# Altium integrated library 2018-LIB.IntLib: 71 symbols
Pins are listed as number, name and electrical type; pins without a type are passive.

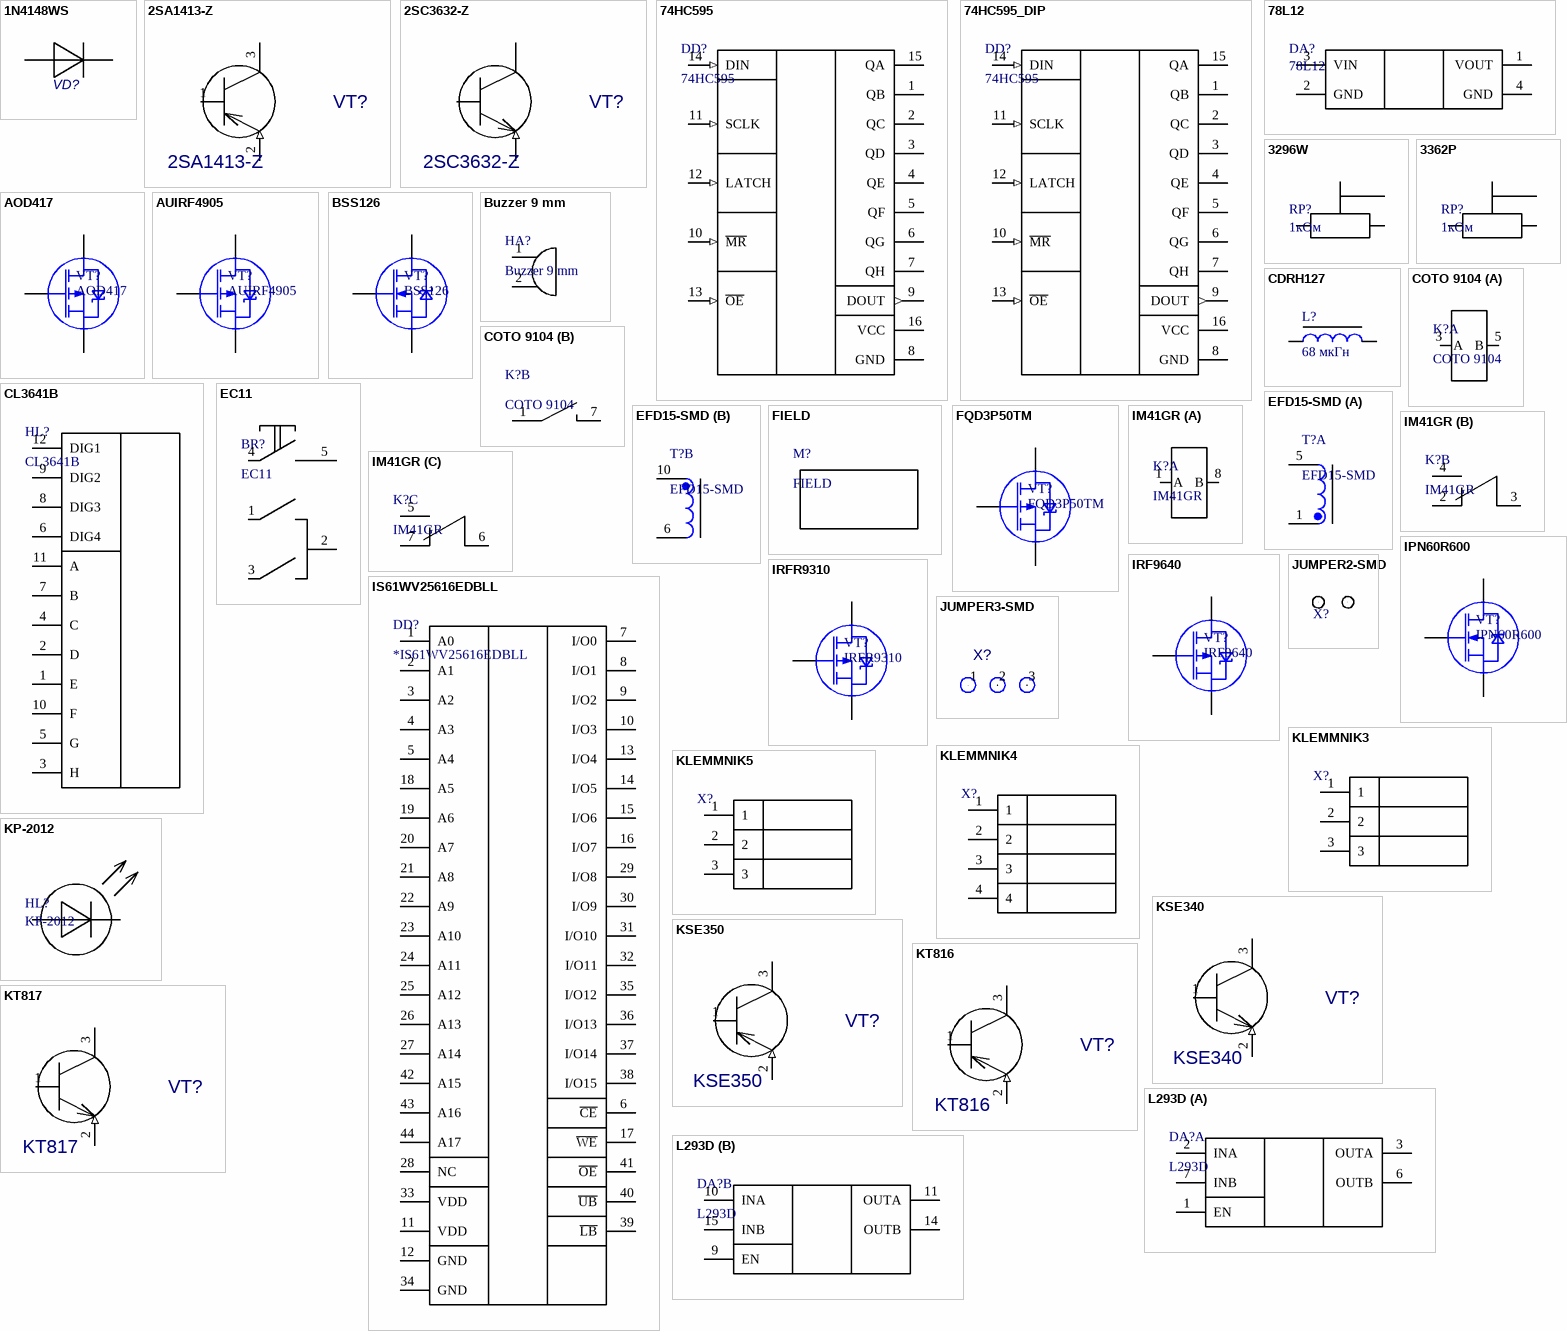
[diagram p0: symbols 1N4148WS to L293D]

## 1N4148WS
designator VD?  (value not drawn)
Diode; Published: 21-Mar-2003; DatasheetDocument: Oct-1999; PackageDocument: Sep-2001; PackageReference: SOT-23; Publisher: Altium Limited; ComponentLink1Description: Manufacturer Link; ComponentLink1URL: http://www.infineon.com/; ComponentLink2Description: Datasheet; ComponentLink2URL: http://www.infineon.com/upload/Document/cmc_upload/documents/080/631/bav99series_1.pdf
footprint sod323 (Chip Diode; Body 2.0 x 1.3 mm (LxW typ))
pins: 1 A, 2 C

## 2SA1413-Z
designator VT?
2SA1413-Z PNP
footprint DPAK
pins: 1 BASE (oc), 2 EMIT (in), 3 COLLEC (oe)

## 2SC3632-Z
designator VT?
2SC3632-Z NPN 600V
footprint DPAK
pins: 1 BASE (oc), 2 EMIT (in), 3 COLLEC (oe)

## 74HC595
designator DD?
footprint R-16A_M (16-Pin Small Outline Integrated Circuit 1.27 mm Pitch, IPC Low Density)
pins: 1 QB (hiz), 2 QC (hiz), 3 QD (hiz), 4 QE (hiz), 5 QF (hiz), 6 QG (hiz), 7 QH (hiz), 8 GND (power), 9 DOUT (out), 10 ~{MR} (in), 11 SCLK (in), 12 LATCH (in), 13 ~{OE} (in), 14 DIN (in), 15 QA (hiz), 16 VCC (power)

## 74HC595_DIP
designator DD?, comment 74HC595
footprint PDIP-16
pins: 1 QB (hiz), 2 QC (hiz), 3 QD (hiz), 4 QE (hiz), 5 QF (hiz), 6 QG (hiz), 7 QH (hiz), 8 GND (power), 9 DOUT (out), 10 ~{MR} (in), 11 SCLK (in), 12 LATCH (in), 13 ~{OE} (in), 14 DIN (in), 15 QA (hiz), 16 VCC (power)

## 78L12
designator DA?
footprint SOT89 (SOT-89; Body 4.6 x 4.25 mm, inc. leads (LxW max))
pins: 1 VOUT, 2 GND, 3 VIN, 4 GND

## 3296W
designator RP?, comment 1кОм
подстроечный резистор; Value: 1кОм
footprint 3296W
pins: 1 CCW, 2 WIPER, 3 CW

## 3362P
designator RP?, comment 1кОм
подстроечный резистор; Value: 1кОм
footprint 3362P
pins: 1 CCW, 2 WIPER, 3 CW

## AOD417
designator VT?
Power MOSFET
footprint DPAK
pins: 1 G, 2 S, 3 D

## AUIRF4905
designator VT?
Power MOSFET
footprint TO-220
pins: 1 G, 2 D, 3 S

## BSS126
designator VT?
SIPMOS® / Small-Signal-Transistor 600V
footprint SOT23-3L (SOT23, 3-Leads, Body 2.9x1.3mm, Pitch 0.95mm, Lead Span 2.5mm, IPC High Density)
pins: 1 G, 2 S, 3 D

## Buzzer 9 mm
designator HA?
footprint Zummer 9mm
pins: 1, 2

## CDRH127
designator L?, comment 68 мкГн
inductor; value: 68 мкГн
footprint CDRH127
pins: 1, 2

## CL3641B
designator HL?
4 DIGIT 0,38'' LED INDICATOR
footprint CL3641B
pins: 1 E, 2 D, 3 H, 4 C, 5 G, 6 DIG4, 7 B, 8 DIG3, 9 DIG2, 10 F, 11 A, 12 DIG1

## COTO 9104
designator K?
footprint COTO 9104
part A pins: 3 A, 5 B
part B pins: 1 NO, 7 COM

## EC11
designator BR?
footprint EC11
pins: 1 A, 2 C, 3 B, 4 D, 5 E

## EFD15-SMD
designator T?
FLYBACK TRANSFORMER; value: 68 мкГн
footprint EFD15-SMD (SOIC, 20-Leads, Body 14,95x14,95mm, Pitch 1,27mm, IPC Medium Density)
part A pins: 1 PR-START, 5 PR-END
part B pins: 6 BIAS-END, 10 BIAS-START

## FIELD
designator M?
footprint FIELD

## FQD3P50TM
designator VT?
Power MOSFET -500V
footprint DPAK
pins: 1 G, 2 S, 3 D

## IM41GR
designator K?
footprint IM41GR
part A pins: 1 A, 8 B
part B pins: 2 NC, 3 COM, 4 NO
part C pins: 5 NO, 6 COM, 7 NC

## IPN60R600
designator VT?
HEXFET Power MOSFET 600V N-CH
footprint SOT223-3 (SOT-223/SC-73; 3 Leads; Body 6.7 x 7.3 mm, inc. leads (LxW max))
pins: 1 G, 2 S, 3 D

## IRF9640
designator VT?
Power MOSFET
footprint D2PAK_3 (D2-PAK, 4-Leads, Body 8.8x10.4mm, Pitch 2.54mm, Lead Span 15.1mm, IPC Low Density)
pins: 1 G, 2 D, 3 S, 4 D

## IRFR9310
designator VT?
Power MOSFET
footprint DPAK
pins: 1 G, 2 S, 3 D

## IS61WV25616EDBLL
designator DD?, comment *IS61WV25616EDBLL
footprint SOP80P1176-44L (SOP, 44-Leads, Body 18.4x10.16mm, Pitch 0.8mm, IPC High Density)
pins: 1 A0, 2 A1, 3 A2, 4 A3, 5 A4, 6 ~{CE}, 7 I/O0, 8 I/O1, 9 I/O2, 10 I/O3, 11 VDD, 12 GND, 13 I/O4, 14 I/O5, 15 I/O6, 16 I/O7, 17 ~{WE}, 18 A5, 19 A6, 20 A7, 21 A8, 22 A9, 23 A10, 24 A11, 25 A12, 26 A13, 27 A14, 28 NC, 29 I/O8, 30 I/O9, 31 I/O10, 32 I/O11, 33 VDD, 34 GND, 35 I/O12, 36 I/O13, 37 I/O14, 38 I/O15, 39 ~{LB}, 40 ~{UB}, 41 ~{OE}, 42 A15, 43 A16, 44 A17

## JUMPER2-SMD
designator X?  (value not drawn)
footprint JP2_SMD
pins: 1, 2

## JUMPER3-SMD
designator X?  (value not drawn)
footprint JP3_SMD
pins: 1, 2, 3

## KLEMMNIK3
designator X?  (value not drawn)
footprint KL3
pins: 1, 2, 3

## KLEMMNIK4
designator X?  (value not drawn)
footprint KLEMNIK4
pins: 1, 2, 3, 4

## KLEMMNIK5
designator X?  (value not drawn)
footprint KL3
pins: 1, 2, 3

## KP-2012
designator HL?
Red LED SMD0805
footprint CAPC2012L-С0805 (Chip LED, Body 2.0x1.3mm, IPC High Density)
pins: 1 A, 2 C

## KSE340
designator VT?
KSE340 NPN
footprint TO-126
pins: 1 BASE (oc), 2 EMIT (in), 3 COLLEC (oe)

## KSE350
designator VT?
KSE350 PNP
footprint TO-126
pins: 1 BASE (oc), 2 EMIT (in), 3 COLLEC (oe)

## KT816
designator VT?
KT816 PNP
footprint TO-126
pins: 1 BASE (oc), 2 EMIT (in), 3 COLLEC (oe)

## KT817
designator VT?
KT817 NPN
footprint TO-126
pins: 1 BASE (oc), 2 EMIT (in), 3 COLLEC (oe)

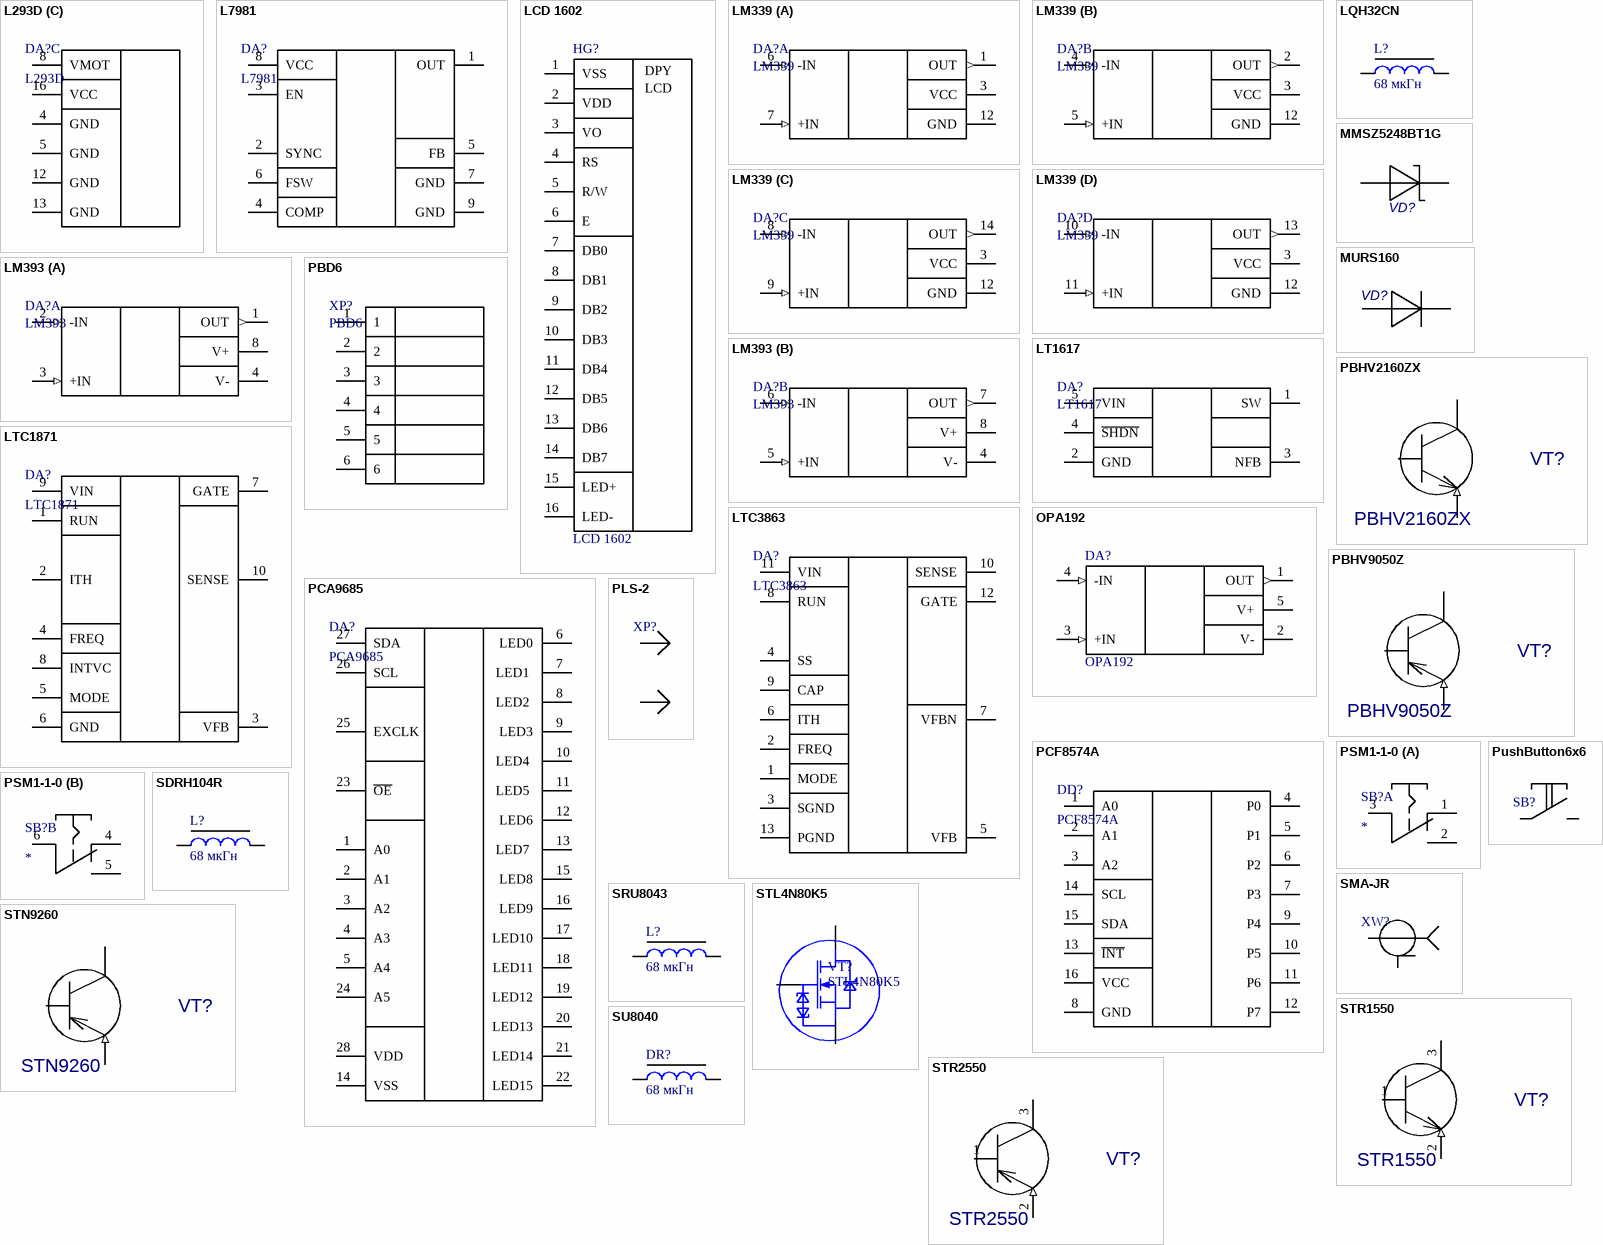
[diagram p1: symbols L293D to SU8040]

## L293D
designator DA?
Quadruple Half-H Drivers
footprint PDIP-16
part A pins: 1 EN, 2 INA, 3 OUTA, 6 OUTB, 7 INB
part B pins: 9 EN, 10 INA, 11 OUTA, 14 OUTB, 15 INB
part C pins: 4 GND, 5 GND, 8 VMOT, 12 GND, 13 GND, 16 VCC

## L7981
designator DA?
3 A step-down switching regulator
footprint SOIC_N_EP (8-Pin Small Outline Integrated Circuit 1.27 mm Pitch, IPC High Density)
pins: 1 OUT, 2 SYNC, 3 EN, 4 COMP, 5 FB, 6 FSW, 7 GND, 8 VCC, 9 GND

## LCD 1602
designator HG?
footprint LCD 1602
pins: 1 VSS, 2 VDD, 3 VO, 4 RS, 5 R/W, 6 E, 7 DB0, 8 DB1, 9 DB2, 10 DB3, 11 DB4, 12 DB5, 13 DB6, 14 DB7, 15 LED+, 16 LED-
text: DPY; LCD

## LM339
designator DA?
OP
footprint R-14_M (14-Pin Narrow Body Small Outline Integrated Circuit 1.27 mm Pitch, IPC Low Density)
part A pins: 1 OUT (out), 3 VCC (power), 6 -IN (in), 7 +IN (in), 12 GND (power)
part B pins: 2 OUT (out), 3 VCC (power), 4 -IN (in), 5 +IN (in), 12 GND (power)
part C pins: 3 VCC (power), 8 -IN (in), 9 +IN (in), 12 GND (power), 14 OUT (out)
part D pins: 3 VCC (power), 10 -IN (in), 11 +IN (in), 12 GND (power), 13 OUT (out)

## LM393
designator DA?
OP
footprint SOIC127P600-8BM (SOIC, 8-Leads, Body 4.9x3.9mm, Pitch 1.27mm, IPC Low Density)
part A pins: 1 OUT (out), 2 -IN (in), 3 +IN (in), 4 V- (power), 8 V+ (power)
part B pins: 4 V- (power), 5 +IN (in), 6 -IN (in), 7 OUT (out), 8 V+ (power)

## LQH32CN
designator L?, comment 68 мкГн
inductor; value: 68 мкГн
footprint LQH32CN
pins: 1, 2

## LT1617
designator DA?
Micropower inverting DC/DC / converters in a 5-lead SOT-23 package.
footprint SOT23-5AM
pins: 1 SW, 2 GND, 3 NFB, 4 ~{SHDN}, 5 VIN

## LTC1871
designator DA?
Wide Input Range, No RSENSE™ / Current Mode Boost, / Flyback and SEPIC Controller
footprint UMAX10 (Shrink Small Outline; 10 Leads; Body Width 3 mm; Pitch 0.5 mm)
pins: 1 RUN, 2 ITH, 3 VFB, 4 FREQ, 5 MODE, 6 GND, 7 GATE, 8 INTVC, 9 VIN, 10 SENSE

## LTC3863
designator DA?
60V Low IQ Inverting / DC/DC Controller
footprint MSOP12-EPAD (TSOP, 12-Leads, Body 4,50x3,00mm, Pitch 0,65mm, Thermal Pad 2,85x1,65mm, IPC Medium Density)
pins: 1 MODE, 2 FREQ, 3 SGND, 4 SS, 5 VFB, 6 ITH, 7 VFBN, 8 RUN, 9 CAP, 10 SENSE, 11 VIN, 12 GATE, 13 PGND

## MMSZ5248BT1G
designator VD?  (value not drawn)
ZENER; Published: 21-Mar-2003; DatasheetDocument: Oct-1999; PackageDocument: Sep-2001; PackageReference: SOT-23; Publisher: Altium Limited; ComponentLink1Description: Manufacturer Link; ComponentLink1URL: http://www.infineon.com/; ComponentLink2Description: Datasheet; ComponentLink2URL: http://www.infineon.com/upload/Document/cmc_upload/documents/080/631/bav99series_1.pdf
footprint SOD-123 (Chip Diode; Body 3.2 x 1.6 mm (LxW typ))
pins: 1 A, 2 C

## MURS160
designator VD?  (value not drawn)
1.0A SURFACE MOUNT SUPER-FAST RECTIFIER  600V; Published: 21-Mar-2003; DatasheetDocument: Oct-1999; PackageDocument: Sep-2001; PackageReference: SOT-23; Publisher: Altium Limited; ComponentLink1Description: Manufacturer Link; ComponentLink1URL: http://www.infineon.com/; ComponentLink2Description: Datasheet; ComponentLink2URL: http://www.infineon.com/upload/Document/cmc_upload/documents/080/631/bav99series_1.pdf
footprint SMA
pins: 1 A, 2 C

## OPA192
designator DA?
footprint SOT23-5AM (SOT23, 5-Leads, Body 2.9x1.7mm, Pitch 0.95mm, Lead Span 2.8mm, IPC Low Density)
pins: 1 OUT (out), 2 V- (power), 3 +IN (in), 4 -IN (in), 5 V+ (power)

## PBD6
designator XP?
footprint PBD-6 (Connector; IDC, Low Profile Male Header, Thru-Hole; 10 Position; Vertical; Pitch 2.54 mm; Body 20.32 x 9.2 x 9.45 mm (LxWxH))
pins: 1, 2, 3, 4, 5, 6

## PBHV2160ZX
designator VT?
PBHV2160ZX NPN
footprint SOT223 (SOT-223/SC-73; 4 Leads; Body 6.7 x 7.3 mm, inc. leads (LxW max))
pins: 1 BASE (oc), 2 COLLEC (oe), 3 EMIT (in), 4 COLLEC (oe)

## PBHV9050Z
designator VT?
PBHV9050Z PNP -500V
footprint SOT223 (SOT-223/SC-73; 4 Leads; Body 6.7 x 7.3 mm, inc. leads (LxW max))
pins: 1 BASE (oc), 2 COLLEC (oe), 3 EMIT (in), 4 COLLEC (oe)

## PCA9685
designator DA?
footprint SOT361-1 (Shrink Small Outline; 28 Leads; Body Width 4.4 mm; Pitch 0.65 mm)
pins: 1 A0, 2 A1, 3 A2 , 4 A3 , 5 A4 , 6 LED0, 7 LED1 , 8 LED2 , 9 LED3, 10 LED4 , 11 LED5 , 12 LED6, 13 LED7 , 14 VSS , 15 LED8, 16 LED9, 17 LED10, 18 LED11, 19 LED12, 20 LED13, 21 LED14, 22 LED15, 23 ~{OE}, 24 A5 , 25 EXCLK, 26 SCL , 27 SDA , 28 VDD 

## PCF8574A
designator DD?
Remote 8-bit I/O expander for I2C-bus with interrupt
footprint R-16A_M (16-Pin Small Outline Integrated Circuit 1.27 mm Pitch, IPC Low Density)
pins: 1 A0, 2 A1, 3 A2, 4 P0, 5 P1, 6 P2, 7 P3, 8 GND, 9 P4, 10 P5, 11 P6, 12 P7, 13 ~{INT}, 14 SCL, 15 SDA, 16 VCC

## PLS-2
designator XP?, comment Klemma1  (value not drawn)
PLS-1
footprint PLS-2
pins: 1, 2

## PSM1-1-0
designator SB?
footprint PSM1-1-0
part A pins: 1 NC, 2 NO, 3 COM
part B pins: 4 NC, 5 NO, 6 COM

## PushButton6x6
designator SB?  (value not drawn)
footprint PushButton6x6
pins: 1, 2, 3, 4

## SDRH104R
designator L?, comment 68 мкГн
inductor; value: 68 мкГн
footprint SDRH104R
pins: 1, 2

## SMA-JR
designator XW?  (value not drawn)
footprint SMA-JR
pins: 1, 2, 3, 4, 5

## SRU8043
designator L?, comment 68 мкГн
inductor; value: 68 мкГн
footprint SRU8043
pins: 1, 2

## STL4N80K5
designator VT?
HEXFET Power MOSFET 600V N-CH
footprint PowerFlat5x6
pins: 1 G, 2 S, 3 D

## STN9260
designator VT?
STN9260 PNP -600V
footprint SOT223 (SOT-223/SC-73; 4 Leads; Body 6.7 x 7.3 mm, inc. leads (LxW max))
pins: 1 BASE (oc), 2 COLLEC (oe), 3 EMIT (in), 4 COLLEC (oe)

## STR1550
designator VT?
STR1550 500V
footprint SOT23-3L (SOT23, 3-Leads, Body 2.9x1.3mm, Pitch 0.95mm, Lead Span 2.5mm, IPC High Density)
pins: 1 BASE (oc), 2 EMIT (in), 3 COLLEC (oe)

## STR2550
designator VT?
STR2550 500V
footprint SOT23-3L (SOT23, 3-Leads, Body 2.9x1.3mm, Pitch 0.95mm, Lead Span 2.5mm, IPC High Density)
pins: 1 BASE (oc), 2 EMIT (in), 3 COLLEC (oe)

## SU8040
designator DR?, comment 68 мкГн
inductor; value: 68 мкГн
footprint SU-8040
pins: 1, 2

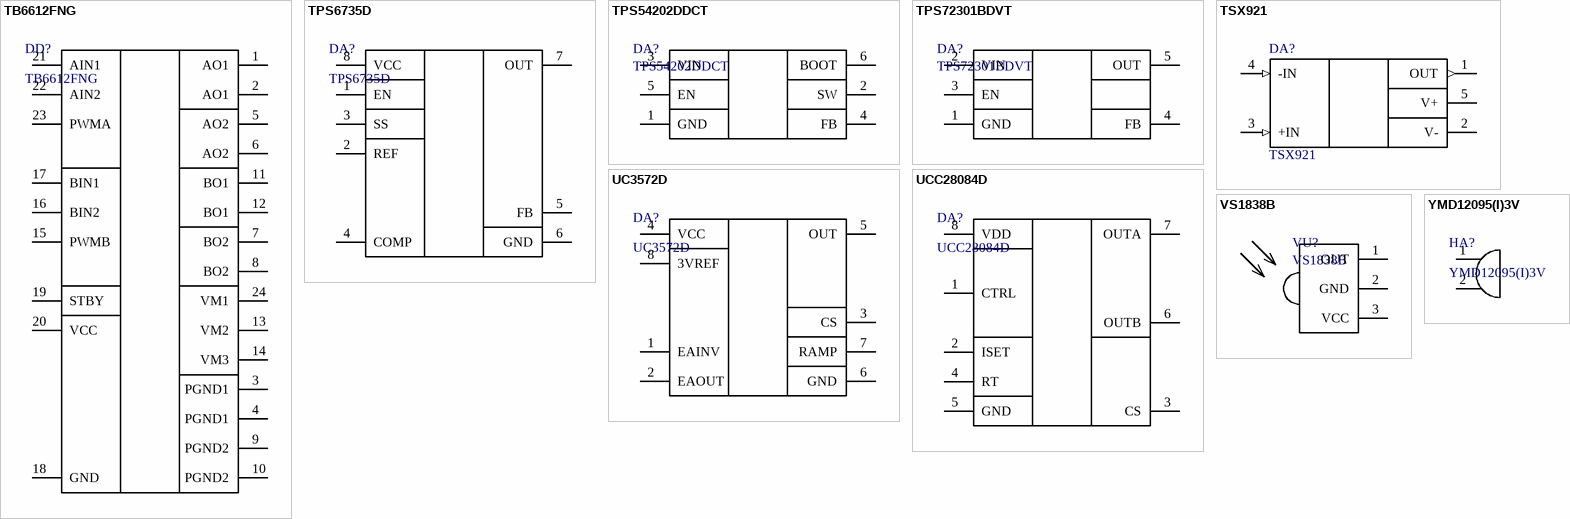
[diagram p2: symbols TB6612FNG to YMD12095(I)3V]

## TB6612FNG
designator DD?
Driver IC for DC motor with output transistor in / LD MOS structure with low ON-resistor.
footprint TB6612FNG
pins: 1 AO1, 2 AO1, 3 PGND1, 4 PGND1, 5 AO2, 6 AO2, 7 BO2, 8 BO2, 9 PGND2, 10 PGND2, 11 BO1, 12 BO1, 13 VM2, 14 VM3, 15 PWMB, 16 BIN2, 17 BIN1, 18 GND, 19 STBY, 20 VСС, 21 AIN1, 22 AIN2, 23 PWMA, 24 VM1

## TPS6735D
designator DA?
The TPS6735 is a fixed negative 5-V output inverting dc/dc converter capable of delivering 200 mA from inputs / as low as 4.5 V
footprint SOIC127P600-8BM (SOIC, 8-Leads, Body 4.9x3.9mm, Pitch 1.27mm, IPC Low Density)
pins: 1 EN, 2 REF, 3 SS, 4 COMP, 5 FB, 6 GND, 7 OUT, 8 VCC

## TPS54202DDCT
designator DA?
TPS54202 4.5-V to 28-V Input, 2-A Output, EMI Friendly / Synchronous Step Down Converter
footprint RJ-6 (SOT-23/SC-74A; 6 Leads; Body 3.1 x 3 mm, inc. leads (LxW max))
pins: 1 GND, 2 SW, 3 VIN, 4 FB, 5 EN, 6 BOOT

## TPS72301BDVT
designator DA?
TPS723xx 200mA Low-Noise, High-PSRR / Negative Output Low-Dropout Linear Regulators
footprint SOT23-5AM
pins: 1 GND, 2 VIN, 3 EN, 4 FB, 5 OUT

## TSX921
designator DA?
10 MHz rail-to-rail CMOS 16 V operational amplifiers
footprint SOT23-5AM (SOT23, 5-Leads, Body 2.9x1.7mm, Pitch 0.95mm, Lead Span 2.8mm, IPC Low Density)
pins: 1 OUT (out), 2 V- (power), 3 +IN (in), 4 -IN (in), 5 V+ (power)

## UC3572D
designator DA?
Negative Output Flyback Pulse Width Modulator.
footprint SOIC127P600-8BM (SOIC, 8-Leads, Body 4.9x3.9mm, Pitch 1.27mm, IPC Low Density)
pins: 1 EAINV, 2 EAOUT, 3 CS, 4 VCC, 5 OUT, 6 GND, 7 RAMP, 8 3VREF

## UCC28084D
designator DA?
PWM
footprint SOIC127P600-8BM (SOIC, 8-Leads, Body 4.9x3.9mm, Pitch 1.27mm, IPC Low Density)
pins: 1 CTRL, 2 ISET, 3 CS, 4 RT, 5 GND, 6 OUTB, 7 OUTA, 8 VDD

## VS1838B
designator VU?
footprint VS1838B
pins: 1 OUT, 2 GND, 3 VCC

## YMD12095(I)3V
designator HA?
footprint YMD12095(I)3V (Zummer 12mm)
pins: 1, 2